# EAGLE library part MCP2025 (library own_parts2)
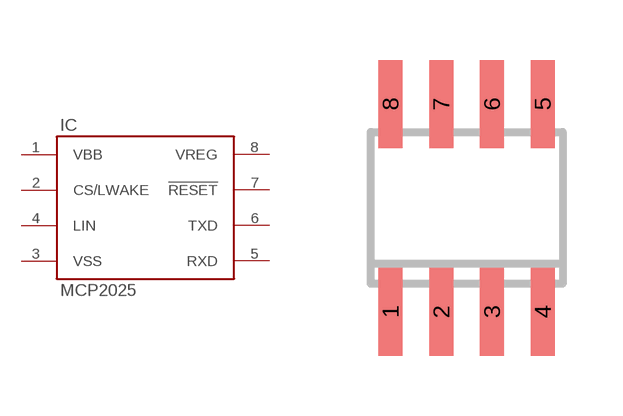
[diagram p22: symbol with the pads of SOIC8; footprint SOIC8]

Designator prefix IC

## MCP2025SOIC8  [SOIC8]
1  VBB
2  CS/LWAKE
3  VSS
4  LIN
5  RXD
6  TXD
7  !RESET
8  VREG

## Footprint SOIC8 (pad centres in mm)
Small Outline IC
smd 0.6 x 2.2: 1 -1.905,-2.6; 2 -0.635,-2.6; 3 0.635,-2.6; 4 1.905,-2.6; 5 1.905,2.6; 6 0.635,2.6; 7 -0.635,2.6; 8 -1.905,2.6